# Altium footprint library CAP_SMD_ALU.PcbLib: 8 footprints
Each footprint in its own frame and in the unit in brackets; x right, y up, seen from the top. Pads: shape width x height; smd on the part's side, far side on the other; paste and mask are expansions set on the pad; w line width, h text height; cw(c..) or ccw(c..) is an arc to the next point about the centre after c.
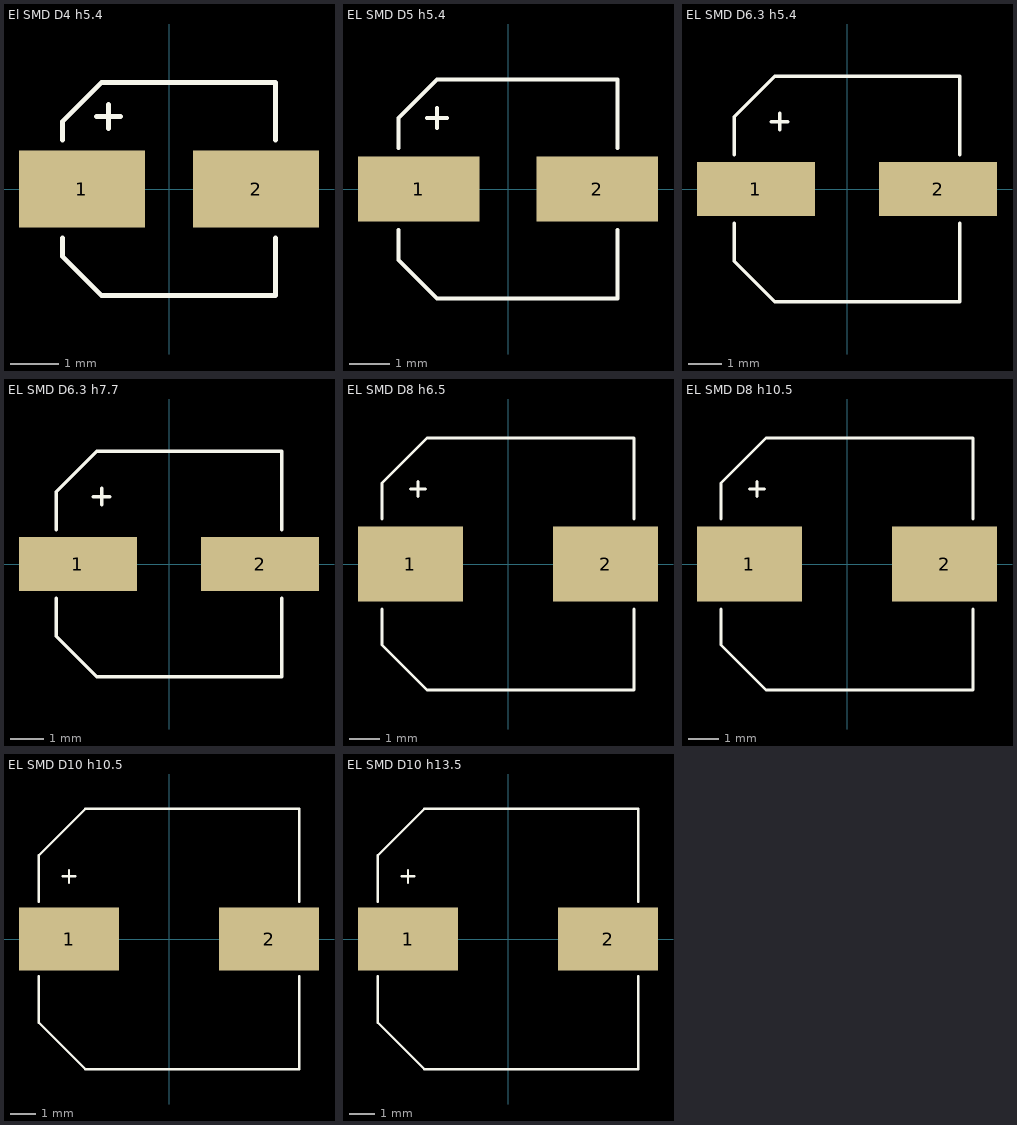
[diagram p0: the footprints below, top view; thin cyan lines are the x and y axes]

## El SMD D4 h5.4 [mm]
height 5.4
pads (2):
  rect 2.6x1.6 smd mask+0.102: 1(-1.8,0) 2(1.8,0)
Top Overlay:
  lines w0.1: -2.2,-1.016 -2.2,-1.4 -1.4,-2.2 2.2,-2.2 2.2,-1.016 ; -2.2,1.016 -2.2,1.4 -1.4,2.2 2.2,2.2 2.2,1.016 ; -1.5,1.5 -1,1.5 ; -1.25,1.25 -1.25,1.75
3D body "Cap EL SMD D4 h5.4.STEP": height 5.8, standoff 0, extent -2.5,-2.15 2.5,2.15

## EL SMD D5 h5.4 [mm]
height 5.4
pads (2):
  rect 3x1.6 smd mask+0.102: 1(-2.2,0) 2(2.2,0)
Top Overlay:
  lines w0.1: -2.7,-1.016 -2.7,-1.75 -1.75,-2.7 2.7,-2.7 2.7,-1.016 ; -2.7,1.016 -2.7,1.75 -1.75,2.7 2.7,2.7 2.7,1.016 ; -2,1.75 -1.5,1.75 ; -1.75,1.5 -1.75,2
3D body "Cap EL SMD D5 h5.4.STEP": height 5.8, standoff 0, extent -2.9,-2.65 2.9,2.65

## EL SMD D6.3 h5.4 [mm]
height 5.4
pads (2):
  rect 3.5x1.6 smd mask+0.102: 1(-2.7,0) 2(2.7,0)
Top Overlay:
  lines w0.1: -3.35,-1.016 -3.35,-2.15 -2.15,-3.35 3.35,-3.35 3.35,-1.016 ; -3.35,1.016 -3.35,2.15 -2.15,3.35 3.35,3.35 3.35,1.016 ; -2.25,2 -1.75,2 ; -2,1.75 -2,2.25
3D body "Cap EL SMD D6.3 h5.4.STEP": height 5.8, standoff 0, extent -3.6,-3.3 3.6,3.3

## EL SMD D6.3 h7.7 [mm]
height 5.4
pads (2):
  rect 3.5x1.6 smd mask+0.102: 1(-2.7,0) 2(2.7,0)
Top Overlay:
  lines w0.1: -3.35,-1.016 -3.35,-2.15 -2.15,-3.35 3.35,-3.35 3.35,-1.016 ; -3.35,1.016 -3.35,2.15 -2.15,3.35 3.35,3.35 3.35,1.016 ; -2.25,2 -1.75,2 ; -2,1.75 -2,2.25
3D body "Cap EL SMD D6.3 h7.7.STEP": height 7.7, standoff 0, extent -3.6,-3.3 3.6,3.3

## EL SMD D8 h6.5 [mm]
height 6.5
pads (2):
  rect 3.5x2.5 smd mask+0.102: 1(-3.25,0) 2(3.25,0)
Top Overlay:
  lines w0.1: -4.2,-1.5 -4.2,-2.7 -2.7,-4.2 4.2,-4.2 4.2,-1.5 ; -4.2,1.5 -4.2,2.7 -2.7,4.2 4.2,4.2 4.2,1.5 ; -3.25,2.5 -2.75,2.5 ; -3,2.25 -3,2.75
3D body "Cap EL SMD D8 h6.5.STEP": height 6.8, standoff 0, extent -4.5,-4.15 4.5,4.15

## EL SMD D8 h10.5 [mm]
height 10.5
pads (2):
  rect 3.5x2.5 smd mask+0.102: 1(-3.25,0) 2(3.25,0)
Top Overlay:
  lines w0.1: -4.2,-1.5 -4.2,-2.7 -2.7,-4.2 4.2,-4.2 4.2,-1.5 ; -4.2,1.5 -4.2,2.7 -2.7,4.2 4.2,4.2 4.2,1.5 ; -3.25,2.5 -2.75,2.5 ; -3,2.25 -3,2.75
3D body "Cap EL SMD D8 h10.5.STEP": height 10.8, standoff 0, extent -4.5,-4.15 4.5,4.15

## EL SMD D10 h10.5 [mm]
height 10.5
pads (2):
  rect 4x2.5 smd mask+0.102: 1(-4,0) 2(4,0)
Top Overlay:
  lines w0.1: -5.2,-1.5 -5.2,-3.35 -3.35,-5.2 5.2,-5.2 5.2,-1.5 ; -5.2,1.5 -5.2,3.35 -3.35,5.2 5.2,5.2 5.2,1.5 ; -4.25,2.5 -3.75,2.5 ; -4,2.25 -4,2.75
3D body "Cap EL SMD D10 h10.5.STEP": height 10.8, standoff 0, extent -5.5,-5.15 5.5,5.15

## EL SMD D10 h13.5 [mm]
height 13.5
pads (2):
  rect 4x2.5 smd mask+0.102: 1(-4,0) 2(4,0)
Top Overlay:
  lines w0.1: -5.2,-1.5 -5.2,-3.35 -3.35,-5.2 5.2,-5.2 5.2,-1.5 ; -5.2,1.5 -5.2,3.35 -3.35,5.2 5.2,5.2 5.2,1.5 ; -4.25,2.5 -3.75,2.5 ; -4,2.25 -4,2.75
3D body "Cap EL SMD D10 h13.5.STEP": height 13.8, standoff 0, extent -5.5,-5.15 5.5,5.15